# EAGLE library part PIN_HEADER_7 (library icmi-connectors)
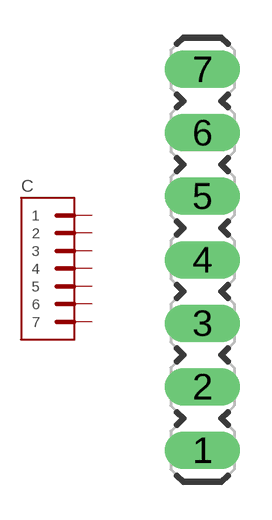
[diagram p4: symbol with the pads of BREAKAWAY_STRAIGHT_7_WIDE; footprint BREAKAWAY_STRAIGHT_7_WIDE]

Designator prefix C

## PIN_HEADER_7-WIDE  [BREAKAWAY_STRAIGHT_7_WIDE]
1  1
2  2
3  3
4  4
5  5
6  6
7  7

## Footprint BREAKAWAY_STRAIGHT_7_WIDE (pad centres in mm)
drill 1 long: 1 0,-7.62; 2 0,-5.08; 3 0,-2.54; 4 0,0; 5 0,2.54; 6 0,5.08; 7 0,7.62